# Altium footprint library Safety_Lock.PcbLib: 40 footprints (part 1 of 3)
Each footprint in its own frame and in the unit in brackets; x right, y up, seen from the top. Pads: shape width x height; smd on the part's side, far side on the other; paste and mask are expansions set on the pad; w line width, h text height; cw(c..) or ccw(c..) is an arc to the next point about the centre after c.
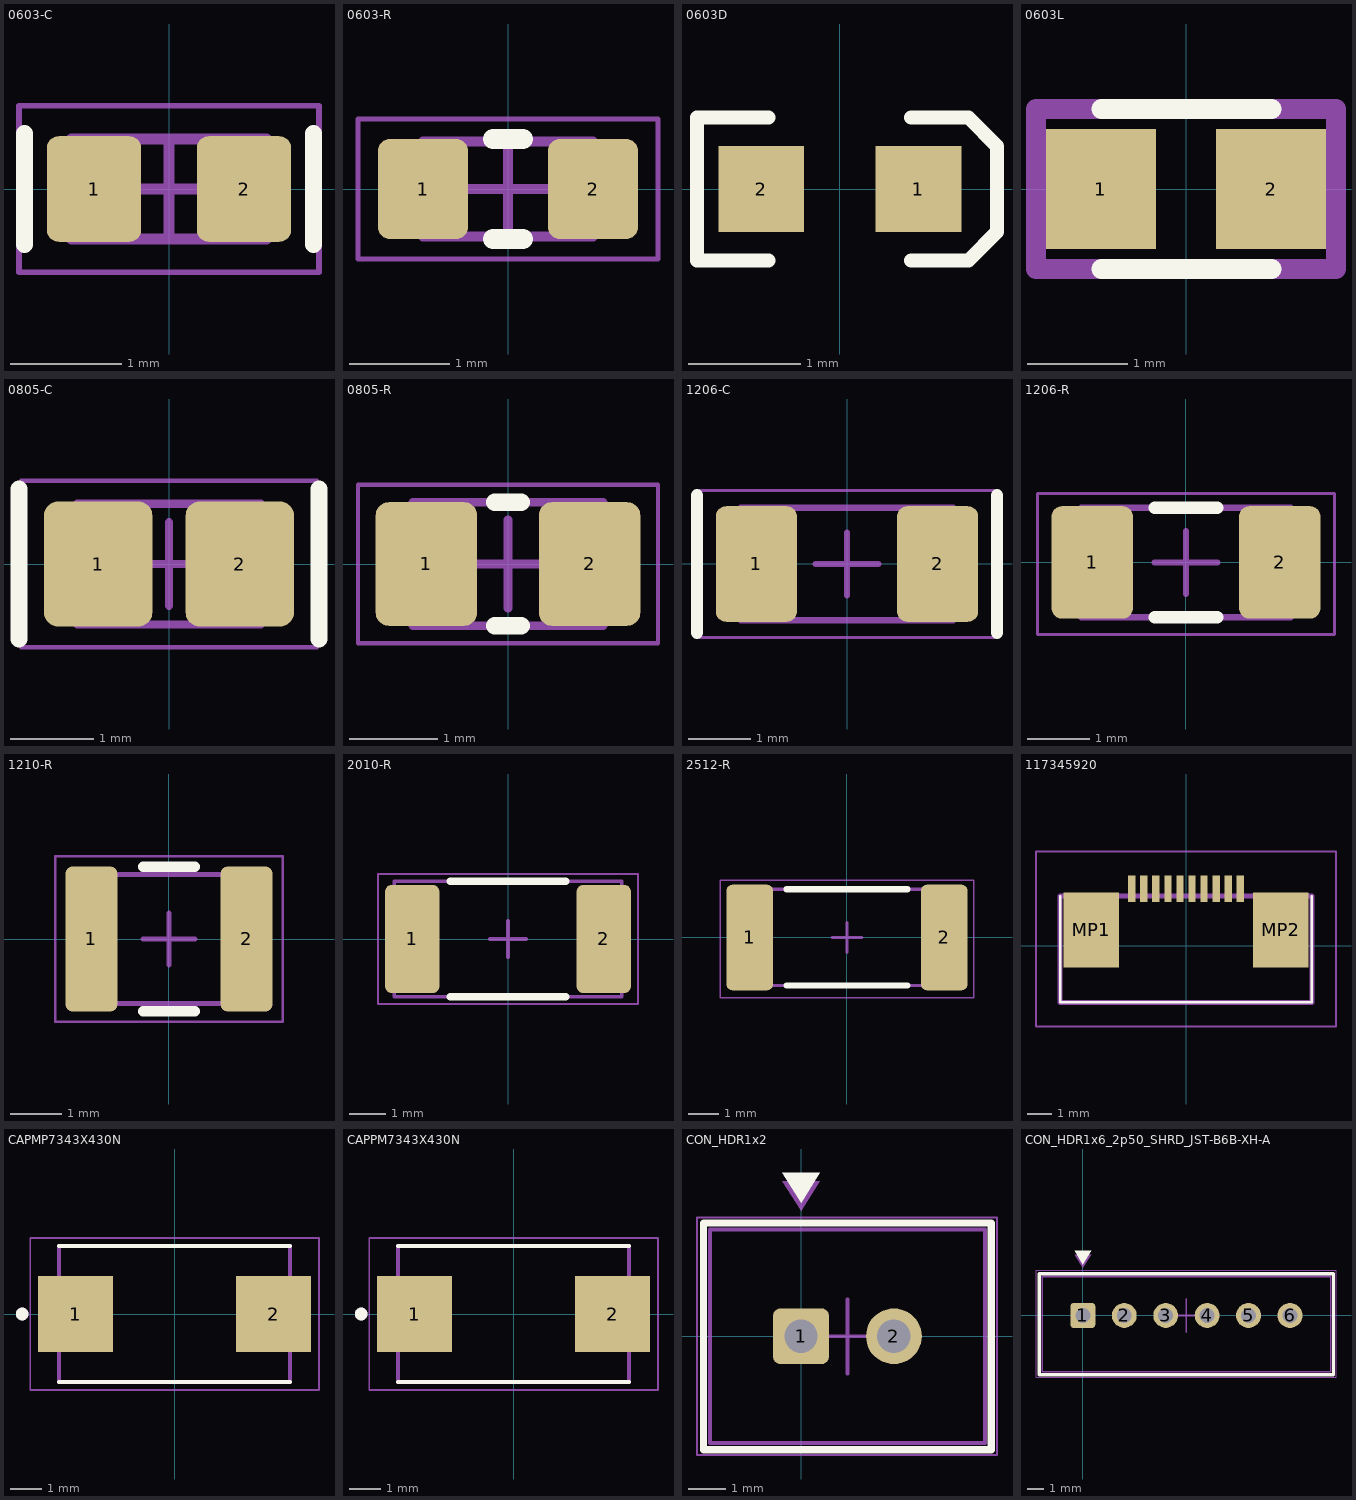
[diagram p0: the footprints below, top view; thin cyan lines are the x and y axes]

## 0603-C [mm] "Capacitor 0603 Nominal Density"
height 0.55
pads (2):
  rrect25% 0.85x0.95 smd: 1(-0.675,0) 2(0.675,0)
Top Overlay:
  lines w0.15: -1.3,-0.5 -1.3,0.5 ; 1.3,-0.5 1.3,0.5
Top Courtyard:
  lines w0.05: -1.35,-0.75 -1.35,0.75 1.35,0.75 1.35,-0.75 -1.35,-0.75
  lines w0.1: -0.45,0 0.45,0 ; 0,-0.45 0,0.45
Top Assembly:
  lines w0.1: -0.875,-0.45 -0.875,0.45 0.875,0.45 0.875,-0.45 -0.875,-0.45
3D body "C_0603_X7R.STEP": height 0.95, standoff 0, extent -0.875,-0.435 0.875,0.435

## 0603-R [mm] "Resistor 0603 Medium Density"
height 0.3
pads (2):
  rrect25% 0.9x1 smd: 1(-0.85,0) 2(0.85,0)
Top Overlay:
  lines w0.2: -0.15,-0.5 0.15,-0.5 ; -0.15,0.5 0.15,0.5
Top Courtyard:
  lines w0.05: -1.5,-0.7 1.5,-0.7 1.5,0.7 -1.5,0.7 -1.5,-0.7
  lines w0.1: -0.5,0 0.5,0 ; 0,-0.5 0,0.5
Top Assembly:
  lines w0.1: -0.85,-0.475 0.85,-0.475 0.85,0.475 -0.85,0.475 -0.85,-0.475
3D body "Resistor SMD 0603.STEP": height 0.3, standoff 0, extent -0.8,-0.4 0.8,0.4

## 0603D [mil]
pads (2):
  rect 30x30 smd: 1(27.5,0) 2(-27.5,0)
Top Overlay:
  lines w5: -25,-25 -50,-25 -50,25 -25,25 ; 25,-25 45,-25 55,-15 55,15 45,25 25,25
3D body "LTW-C191TLA.STEP": height 25.59, standoff 0, extent -31.5,-15.74 31.5,15.75

## 0603L [mm]
pads (2):
  rect 1.1x1.2 smd: 1(-0.85,0) 2(0.85,0)
Top Overlay:
  lines w0.2: -0.845,-0.8 0.857,-0.8 ; -0.845,0.8 0.857,0.8
Mechanical 4:
  lines w0.2: -1.5,-0.8 -1.5,0.8 1.5,0.8 1.5,-0.8 -1.5,-0.8

## 0805-C [mm] "Capacitor 0805 Nominal Density"
height 1.55
pads (2):
  rrect25% 1.3x1.5 smd: 1(-0.85,0) 2(0.85,0)
Top Overlay:
  lines w0.2: -1.8,-0.9 -1.8,0.9 ; 1.8,-0.9 1.8,0.9
Top Courtyard:
  lines w0.05: -1.775,-1 1.775,-1 1.775,1 -1.775,1 -1.775,-1
  lines w0.1: -0.5,0 0.5,0 ; 0,-0.5 0,0.5
Top Assembly:
  lines w0.1: -1.1,-0.725 1.1,-0.725 1.1,0.725 -1.1,0.725 -1.1,-0.725
3D body "CAP-0805.STEP": height 0.78, standoff 0, extent -1,-0.625 1,0.625

## 0805-R [mm] "Resistor 0805 Medium Density"
height 0.7
pads (2):
  rrect25% 1.15x1.4 smd: 1(-0.925,0) 2(0.925,0)
Top Overlay:
  lines w0.2: -0.15,-0.7 0.15,-0.7 ; -0.15,0.7 0.15,0.7
Top Courtyard:
  lines w0.05: -1.7,-0.9 1.7,-0.9 1.7,0.9 -1.7,0.9 -1.7,-0.9
  lines w0.1: -0.5,0 0.5,0 ; 0,-0.5 0,0.5
Top Assembly:
  lines w0.1: -1.075,-0.7 1.075,-0.7 1.075,0.7 -1.075,0.7 -1.075,-0.7
3D body "RES-0805.STEP": height 0.78, standoff 0, extent -1,-0.625 1,0.625

## 1206-C [mm] "Capacitor 1206 Nominal Density"
height 1.33
pads (2):
  rrect25% 1.3x1.85 smd: 1(-1.45,0) 2(1.45,0)
Top Overlay:
  lines w0.2: -2.4,-1.1 -2.4,1.1 ; 2.4,-1.1 2.4,1.1
Top Courtyard:
  lines w0.05: -2.35,-1.175 2.35,-1.175 2.35,1.175 -2.35,1.175 -2.35,-1.175
  lines w0.1: -0.5,0 0.5,0 ; 0,-0.5 0,0.5
Top Assembly:
  lines w0.1: -1.7,-0.9 1.7,-0.9 ; -1.7,-0.9 -1.7,0.9 ; -1.7,-0.9 1.7,-0.9 ; -1.7,-0.9 -1.7,0.9 ; -1.7,0.9 1.7,0.9 ; -1.7,0.9 1.7,0.9 ; 1.7,-0.9 1.7,0.9 ; 1.7,-0.9 1.7,0.9
3D body "CAP-1206.STEP": height 1, standoff 0, extent -1.6,-0.8 1.6,0.8

## 1206-R [mm] "Resistor 1206 Medium Density"
height 0.75
pads (2):
  rrect25% 1.3x1.8 smd: 1(-1.5,0) 2(1.5,0)
Top Overlay:
  lines w0.2: -0.5,-0.875 0.5,-0.875 ; -0.5,0.875 0.5,0.875
Top Courtyard:
  lines w0.05: -2.375,-1.15 2.375,-1.15 2.375,1.1 -2.375,1.1 -2.375,-1.15
  lines w0.1: -0.5,0 0.5,0 ; 0,-0.5 0,0.5
Top Assembly:
  lines w0.1: -1.675,-0.875 1.675,-0.875 1.675,0.875 -1.675,0.875 -1.675,-0.875
3D body "RES-1206.STEP": height 1, standoff 0, extent -1.6,-0.8 1.6,0.8

## 1210-R [mm] "Resistor 1210 Medium Density"
height 0.7
pads (2):
  rrect25% 1x2.8 smd: 1(-1.5,0) 2(1.5,0)
Top Overlay:
  lines w0.2: -0.5,-1.4 0.5,-1.4 ; -0.5,1.4 0.5,1.4
Top Courtyard:
  lines w0.05: -2.2,-1.6 -2.2,1.6 2.2,1.6 2.2,-1.6 -2.2,-1.6
  lines w0.1: -0.5,0 0.5,0 ; 0,-0.5 0,0.5
Top Assembly:
  lines w0.1: -1.6,-1.25 -1.6,1.25 1.6,1.25 1.6,-1.25 -1.6,-1.25
3D body "RMCF1210JT33R0.STEP": height 0.7, standoff 0, extent -1.6,-1.25 1.6,1.25

## 2010-R [mm] "Resistor 2010 Medium Density"
height 0.7
pads (2):
  rrect25% 1.5x3 smd: 1(-2.65,0) 2(2.65,0)
Top Overlay:
  lines w0.2: -1.6,-1.6 1.6,-1.6 ; -1.6,1.6 1.6,1.6
Top Courtyard:
  lines w0.05: -3.6,-1.8 -3.6,1.8 3.6,1.8 3.6,-1.8 -3.6,-1.8
  lines w0.1: -0.5,0 0.5,0 ; 0,-0.5 0,0.5
Top Assembly:
  lines w0.1: -3.15,-1.6 3.15,-1.6 3.15,1.6 -3.15,1.6 -3.15,-1.6
3D body "CRM2010-FX-1000ELF.STEP": height 0.7, standoff 0, extent -2.5,-1.25 2.5,1.25

## 2512-R [mm] "Resistor 3512 Medium Density"
height 0.7
pads (2):
  rrect25% 1.55x3.5 smd: 1(-3.225,0) 2(3.225,0)
Top Overlay:
  lines w0.2: -2,-1.6 2,-1.6 ; -2,1.6 2,1.6
Top Courtyard:
  lines w0.05: -4.2,-2 -4.2,1.9 4.2,1.9 4.2,-2 -4.2,-2
  lines w0.1: -0.5,0 0.5,0 ; 0,-0.5 0,0.5
Top Assembly:
  lines w0.1: -3.15,-1.6 3.15,-1.6 3.15,1.6 -3.15,1.6 -3.15,-1.6
3D body "3512 resistor.STEP": height 0.7, standoff 0, extent -3.15,-1.6 3.15,1.6

## 117345920 [mm]
pads (12):
  rect 0.3x1.1 smd: 1(-2.25,2.35) 2(-1.75,2.35) 3(-1.25,2.35) 4(-0.75,2.35) 5(-0.25,2.35) 6(0.25,2.35) 7(0.75,2.35) 8(1.25,2.35) 9(1.75,2.35) 10(2.25,2.35)
  rect 2.3x3.1 smd: MP1(-3.92,0.65) MP2(3.92,0.65)
Top Overlay:
  lines w0.1: -5.215,2.05 -5.215,-2.35 5.215,-2.35 5.215,2.05
Top Courtyard:
  lines w0.1: -6.215,-3.35 6.215,-3.35 6.215,3.9 -6.215,3.9 -6.215,-3.35
Top Assembly:
  lines w0.2: -5.215,-2.35 5.215,-2.35 5.215,2.05 -5.215,2.05 -5.215,-2.35
3D body "1-1734592-0.stp": height 2.05, standoff 0, extent -5.215,-2.37 5.215,2.74

## CAPMP7343X430N [mm]
pads (2):
  rect 2.37x2.41 smd: 1(-3.125,0) 2(3.125,0)
Top Overlay:
  circle w0.2: c-4.81,0 r0.1
  lines w0.127: -3.65,-2.15 3.65,-2.15 ; -3.65,2.15 3.65,2.15
Mechanical 13:
  circle w0.2: c-4.81,0 r0.1
  lines w0.127: -3.65,-2.15 -3.65,2.15 3.65,2.15 3.65,-2.15 -3.65,-2.15
Mechanical 15:
  lines w0.05: -4.56,-2.4 -4.56,2.4 4.56,2.4 4.56,-2.4 -4.56,-2.4
3D body "step_temp.STEP": height 4.3, standoff 0, extent -3.65,-2.15 3.65,2.15

## CAPPM7343X430N [mm]
pads (2):
  rect 2.37x2.41 smd: 1(-3.125,0) 2(3.125,0)
Top Overlay:
  circle w0.2: c-4.81,0 r0.1
  lines w0.127: -3.65,-2.15 3.65,-2.15 ; -3.65,2.15 3.65,2.15
Mechanical 13:
  circle w0.2: c-4.81,0 r0.1
  lines w0.127: -3.65,-2.15 -3.65,2.15 3.65,2.15 3.65,-2.15 -3.65,-2.15
Mechanical 15:
  lines w0.05: -4.56,-2.4 -4.56,2.4 4.56,2.4 4.56,-2.4 -4.56,-2.4
3D body "step_temp.STEP": height 4.3, standoff 0, extent -3.65,-2.15 3.65,2.15

## CON_HDR1x2 [mm] "Connector 2-Way 2.50mm Pitch Right Angle Shrouded JST S2B-XH-A"
height 7
pads (2):
  rrect25% 1.5x1.5 / inner round 1.5 / far side rrect25% 1.5x1.5 hole 0.9: 1(0,0)
  round 1.5 hole 0.9: 2(2.5,0)
Top Overlay:
  region: 0,3.6 0.5,4.4 -0.5,4.4
  lines w0.2: -2.625,-3.05 5.125,-3.05 5.125,3.05 -2.625,3.05 -2.625,-3.05
Top Courtyard:
  lines w0.05: -2.8,-3.2 5.275,-3.2 5.275,3.2 -2.8,3.2 -2.8,-3.2
  lines w0.1: 0.25,0 1.25,0 ; 1.25,-1 1.25,0 ; 1.25,1 1.25,0 ; 2.25,0 1.25,0
Top Assembly:
  region: 0,3.375 0.5,4.175 -0.5,4.175
  lines w0.1: -2.45,-2.2 -2.45,2.875 4.95,2.875 4.95,-2.875 -2.45,-2.875 -2.45,0.4
3D body "User Library-JST B2B-XH-A.STEP": height 7, standoff -3.4, extent -2.45,-2.875 4.95,2.875

## CON_HDR1x6_2p50_SHRD_JST-B6B-XH-A [mm] "Connector 6-Way 2.50mm Pitch Right Angle Shrouded JST-B6B-XH-A"
height 7
pads (6):
  rrect25% 1.5x1.5 / inner round 1.5 / far side rrect25% 1.5x1.5 hole 0.9: 1(0,0)
  round 1.5 hole 0.9: 2(2.5,0) 3(5,0) 4(7.5,0) 5(10,0) 6(12.5,0)
Top Overlay:
  region: 0,3.1 0.5,3.9 -0.5,3.9
  lines w0.2: -2.625,-3.575 15.125,-3.575 15.125,2.525 -2.625,2.525 -2.625,-3.575
Top Courtyard:
  lines w0.05: -2.825,-3.725 15.275,-3.725 15.275,2.725 -2.825,2.725 -2.825,-3.725
  lines w0.1: 5.25,0 6.25,0 ; 6.25,-1 6.25,0 ; 6.25,1 6.25,0 ; 7.25,0 6.25,0
Top Assembly:
  region: 0,2.875 0.5,3.675 -0.5,3.675
  lines w0.1: -2.45,-2.2 -2.45,2.35 14.951,2.35 14.951,-3.4 -2.45,-3.4 -2.45,0.4
3D body "B6B-XH-A.STEP": height 7, standoff -3.4, extent -2.45,-3.375 14.95,2.375